# Altium schematic symbol library SCH - RF - MODULE - DIGI XBEE SMT.SCHLIB: 1 symbol
Pins are listed as number, name and electrical type; pins without a type are passive.

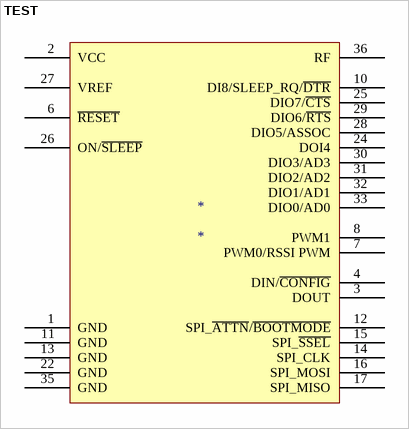
[diagram p0: symbol TEST]

## TEST
designator *
pins: 1 GND, 2 VCC, 3 DOUT, 4 DIN/~{CONFIG}, 6 ~{RESET}, 7 PWM0/RSSI PWM, 8 PWM1, 10 DI8/SLEEP_RQ/~{DTR}, 11 GND, 12 SPI_~{ATTN}/~{BOOTMODE}, 13 GND, 14 SPI_CLK, 15 SPI_~{SSEL}, 16 SPI_MOSI, 17 SPI_MISO, 22 GND, 24 DOI4, 25 DIO7/~{CTS}, 26 ON/~{SLEEP}, 27 VREF, 28 DIO5/ASSOC, 29 DIO6/~{RTS}, 30 DIO3/AD3, 31 DIO2/AD2, 32 DIO1/AD1, 33 DIO0/AD0, 35 GND, 36 RF